# EAGLE library part BTM-750 (library rayson__btm_bluetooth_modul)
The module is a Max.4dBm( Class2 ) module. Fully Qualified Bluetooth v2.1+EDR system. Integrated Switched-Mode Regulator. Integrated Battery Charger. Embedded Kalimba DSP Co-Processor. Integrated 16-bit Stereo Audio CODEC 95dB SNR for DAC. Enhanced Audibility and Noise Cancellation. Integrated with 8M bits flash memory. Support Host Interface: USB or UART. Support Digital Audio Bus : PCM, I2S or SPDIF. HSP/HFP/A2DP/AVRCP profiles support. Integrated chip antenna ( or W.FL connector) RoHS compliant. Small outline. 16.0 x 23.9 x 2.6 mm.
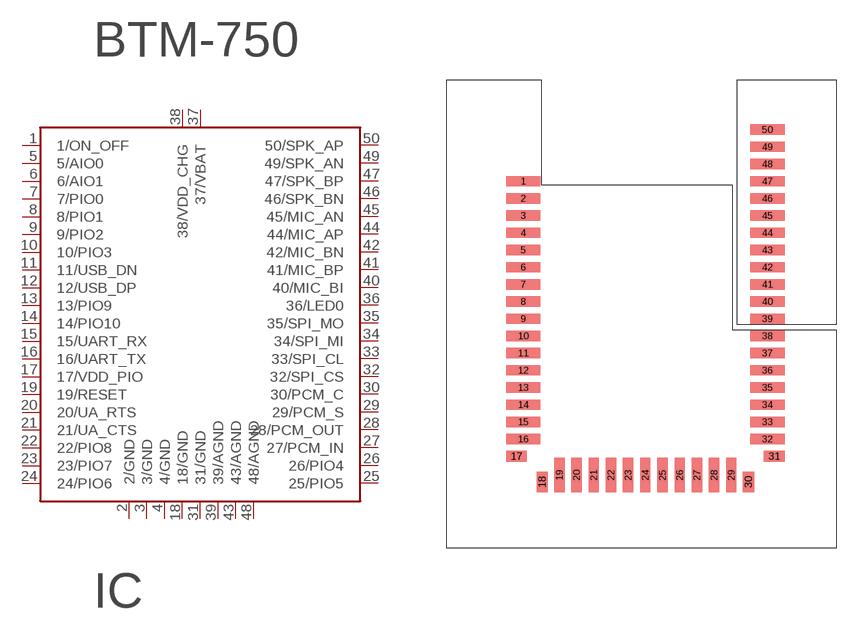
[diagram p3: symbol with the pads of BTM-750; footprint BTM-750]

Designator prefix IC

## BTM-750  [BTM-750]
1  1/ON_OFF
2  2/GND  pwr
3  3/GND  pwr
4  4/GND  pwr
5  5/AIO0
6  6/AIO1
7  7/PIO0
8  8/PIO1
9  9/PIO2
10  10/PIO3
11  11/USB_DN
12  12/USB_DP
13  13/PIO9
14  14/PIO10
15  15/UART_RX  in
16  16/UART_TX  out
17  17/VDD_PIO
18  18/GND  pwr
19  19/RESET  in
20  20/UA_RTS  out
21  21/UA_CTS  in
22  22/PIO8
23  23/PIO7
24  24/PIO6
25  25/PIO5
26  26/PIO4
27  27/PCM_IN  in
28  28/PCM_OUT  out
29  29/PCM_S
30  30/PCM_C
31  31/GND  pwr
32  32/SPI_CS  in
33  33/SPI_CL  in
34  34/SPI_MI  out
35  35/SPI_MO  in
36  36/LED0  out
37  37/VBAT  pwr
38  38/VDD_CHG  pwr
39  39/AGND  pwr
40  40/MIC_BI
41  41/MIC_BP  in
42  42/MIC_BN  in
43  43/AGND  pwr
44  44/MIC_AP
45  45/MIC_AN
46  46/SPK_BN
47  47/SPK_BP
48  48/AGND  pwr
49  49/SPK_AN  out
50  50/SPK_AP  out

## Footprint BTM-750 (pad centres in mm)
smd 2 x 0.6: 1 -7.1,6; 2 -7.1,5; 3 -7.1,4; 4 -7.1,3; 5 -7.1,2; 6 -7.1,1; 7 -7.1,0; 8 -7.1,-1; 9 -7.1,-2; 10 -7.1,-3; 11 -7.1,-4; 12 -7.1,-5; 13 -7.1,-6; 14 -7.1,-7; 15 -7.1,-8; 16 -7.1,-9; 32 7.1,-9; 33 7.1,-8; 34 7.1,-7; 35 7.1,-6; 36 7.1,-5; 37 7.1,-4; 38 7.1,-3; 39 7.1,-2; 40 7.1,-1; 41 7.1,0; 42 7.1,1; 43 7.1,2; 44 7.1,3; 45 7.1,4; 46 7.1,5; 47 7.1,6; 48 7.1,7; 49 7.1,8; 50 7.1,9
smd 1.2 x 0.65: 17 -7.5,-10; 31 7.5,-10
smd 0.65 x 1.2: 18 -6,-11.5; 30 6,-11.5
smd 0.6 x 2: 19 -5,-11.1; 20 -4,-11.1; 21 -3,-11.1; 22 -2,-11.1; 23 -1,-11.1; 24 0,-11.1; 25 1,-11.1; 26 2,-11.1; 27 3,-11.1; 28 4,-11.1; 29 5,-11.1